# Altium schematic symbol library Riedon.SchLib: 1 symbol
Pins are listed as number, name and electrical type; pins without a type are passive.

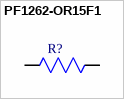
[diagram p0: symbol PF1262-OR15F1]

## PF1262-OR15F1
designator R?  (value not drawn)
RES 150 MOHM 20W 1% TO126; Manufacturer: Riedon; Manufacturer Part Number: PF1262-OR15F1; Resistance: 150mR; Temperature Coefficient: 100ppm/°C; Supplier 1: Digi-Key; Supplier Part Number 1: 696-1695-5-ND; Stock 1: 167; Pricing 1: 1 = 2.40000, 10 = 2.13100, 100 = 1.62750, 1000 = 1.05400 (USD); RoHS: Yes; Case/Package: TO-126-2; Min Operating Temperature: -55°C; Max Operating Temperature: 155°C; Packaging: Rail/Tube; Composition: Thin Film; Number of Terminations: 2; Tolerance: 1%; Max Power Dissipation: 20W; Length: 0.335inch; Height: 0.472inch; Width: 0.122inch; ComponentLink1URL: http://riedon.com/media/pdf/PF1260_2015.indd_.pdf?src-supplier=Digi-Key; ComponentLink1Description: http://riedon.com/media/pdf/PF1260_2015.indd_.pdf?src-supplier=Digi-Key
footprint TO126 Resistor
footprint CAPC11670X25N (Chip Capacitor, 2-Leads, Body 11.56x6.98mm, IPC Medium Density)
pins: 1, 2